# Altium footprint library LIB_MVMC.PcbLib: 49 footprints (part 1 of 4)
Each footprint in its own frame and in the unit in brackets; x right, y up, seen from the top. Pads: shape width x height; smd on the part's side, far side on the other; paste and mask are expansions set on the pad; w line width, h text height; cw(c..) or ccw(c..) is an arc to the next point about the centre after c.
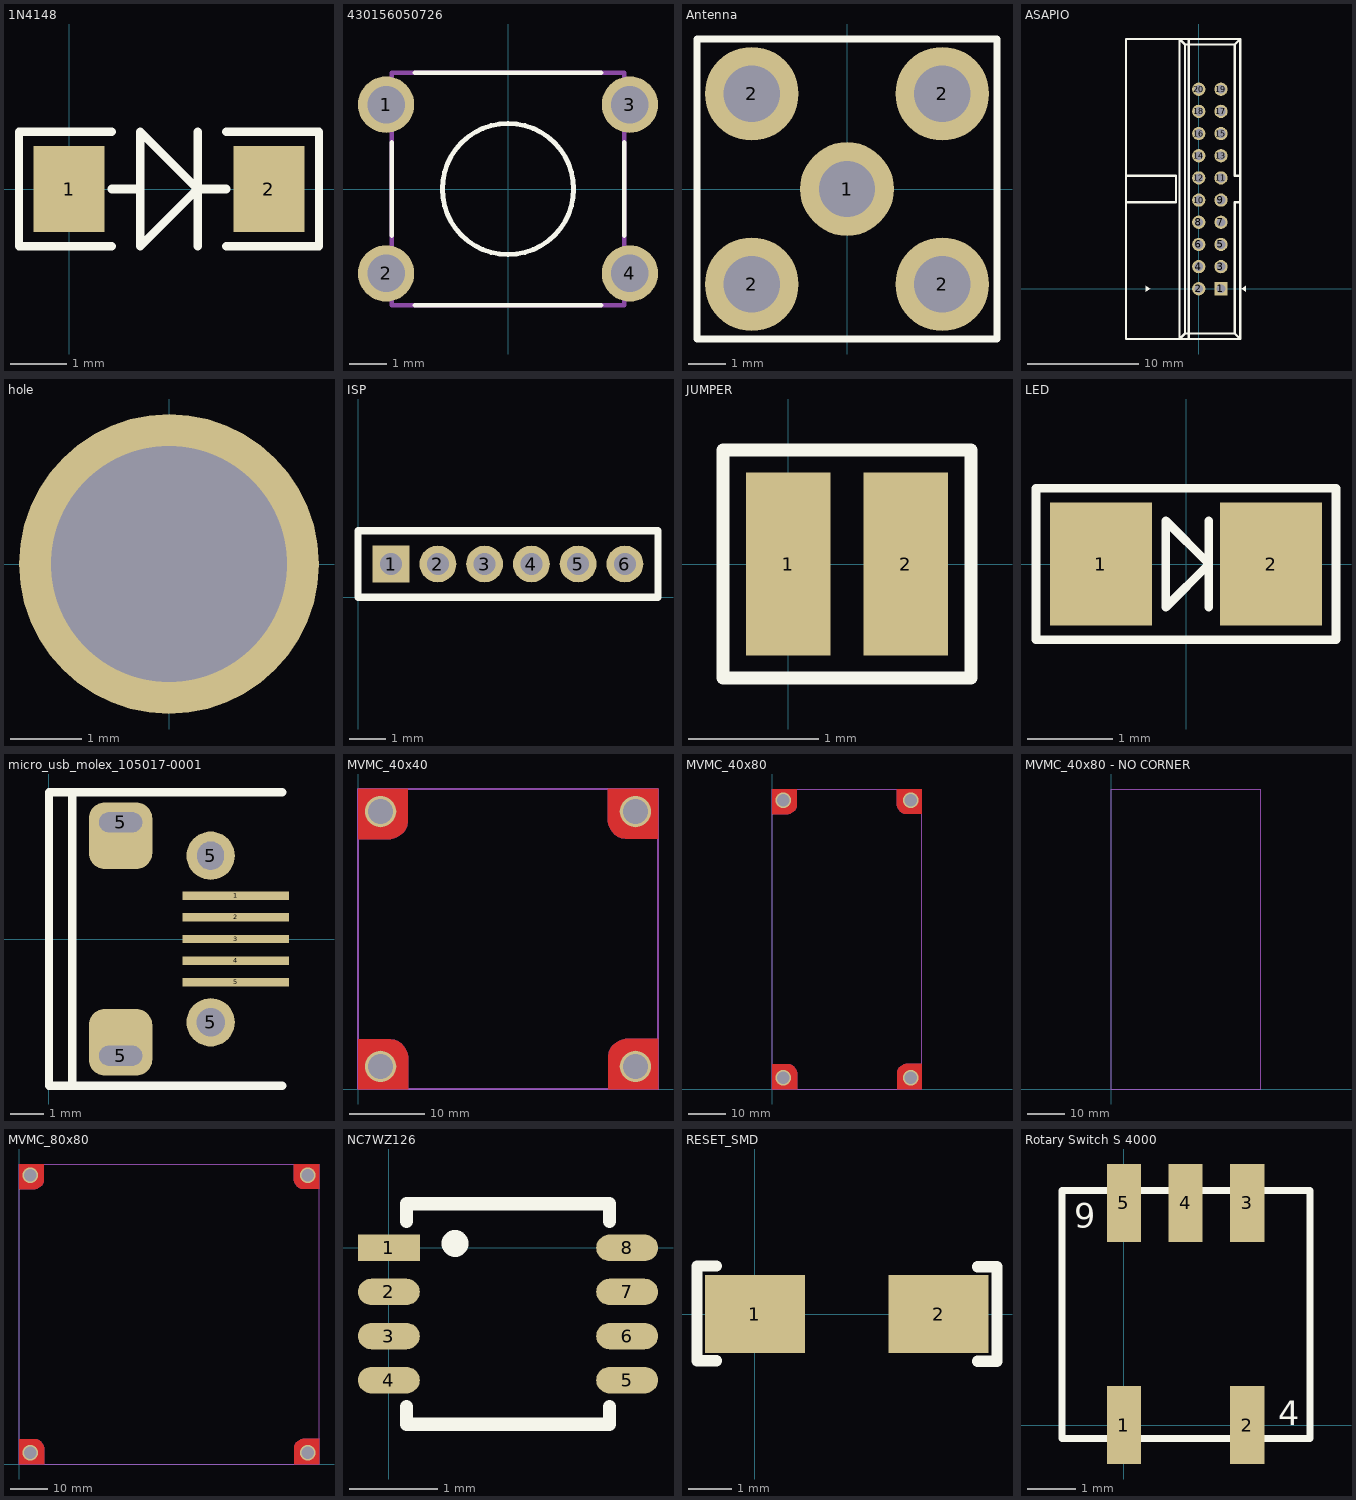
[diagram p0: the footprints below, top view; thin cyan lines are the x and y axes]

## 1N4148 [mil]
pads (2):
  rect 50x60 smd: 1(0,0) 2(140,0)
Top Overlay:
  lines w5.91: 30,-40 -35,-40 -35,40 30,40 ; 110,-40 175,-40 175,40 110,40
  lines w6: 30,0 50,0 ; 90,-40 90,40 ; 110,0 90,0 ; 90,0 50,40 50,-40 90,0
3D body "SOD-80C.STEP": height 63.13, standoff -0.14, extent -1.96,-31.63 143.71,31.64

## 430156050726 [mm] "6*6mm vertical type, THT, height 5.0mm, white actuator, 260gf, Bulk"
height 5
pads (4):
  round 1.5 hole 1: 1(-3.25,2.25) 2(-3.25,-2.25) 3(3.25,2.25) 4(3.25,-2.25)
Top Overlay:
  circle w0.127: c0,0 r1.75
  lines w0.127: -3.1,-1.24 -3.1,1.24 ; -2.48,-3.1 2.48,-3.1 ; -2.48,3.1 2.48,3.1 ; 3.1,-1.24 3.1,1.24
Mechanical 13:
  lines w0.127: -3.1,-3.1 3.1,-3.1 3.1,3.1 -3.1,3.1 -3.1,-3.1
3D body "4301x60507x6.stp": height 5, standoff -3.49, extent -3.947,-3.1 3.947,3.1

## Antenna [mm]
pads (5):
  round 2.5 hole 1.5: 1(0,0) 2(-2.54,-2.54) 2(-2.54,2.54) 2(2.54,-2.54) 2(2.54,2.54)
Top Overlay:
  lines w0.2: -4,-4 4,-4 4,4 -4,4 -4,-4

## ASAPIO [mm]
pads (20):
  rect 1.2x1.2 hole 0.8: 1(2,0)
  round 1.2 hole 0.8: 2(0,0) 3(2,2) 4(0,2) 5(2,4) 6(0,4) 7(2,6) 8(0,6) 9(2,8) 10(0,8) 11(2,10) 12(0,10) 13(2,12) 14(0,12) 15(2,14) 16(0,14) 17(2,16) 18(0,16) 19(2,18) 20(0,18)
Top Overlay:
  region: 4.255,0.254 3.873,0 4.255,-0.254
  region: -4.763,-0.254 -4.381,0 -4.763,0.254
  lines w0.2: -6.561,-4.53 -6.561,22.53 ; -6.561,7.8 -2.061,7.8 -2.061,10.2 -6.561,10.2 ; -6.55,-4.53 -0.9,-4.53 -0.9,22.53 -6.55,22.53 ; -1.735,-4.53 3.735,-4.53 ; -1.735,-4.53 -1.735,22.53 ; -1.735,-4.53 -1.235,-4.03 ; -1.735,22.53 3.735,22.53 ; -1.735,22.53 -1.235,22.03 ; -1.235,-4.03 3.235,-4.03 ; -1.235,-4.03 -1.235,22.03 ; -1.235,22.03 3.235,22.03 ; 3.235,-4.03 3.235,7.8 3.735,7.8 ; 3.235,-4.03 3.735,-4.53 ; 3.235,22.03 3.235,10.2 3.735,10.2 ; 3.235,22.03 3.735,22.53 ; 3.735,-4.53 3.735,7.8 ; 3.735,7.8 3.735,10.2 ; 3.735,10.2 3.735,22.53

## hole [mm]
pads (1):
  round 4.2 hole 3.3: ""(0,0)

## ISP [mm]
pads (6):
  rect 1x1 hole 0.6: 1(0.9,0.9)
  round 1 hole 0.6: 2(2.17,0.9) 3(3.44,0.9) 4(4.71,0.9) 5(5.98,0.9) 6(7.25,0.9)
Top Overlay:
  lines w0.2: 0,0 0,1.8 8.15,1.8 8.15,0 0,0

## JUMPER [mm]
pads (2):
  rect 0.65x1.4 smd: 1(0,0) 2(0.9,0)
Top Overlay:
  lines w0.1: -0.5,-0.875 -0.5,0.875 1.4,0.875 1.4,-0.875 -0.5,-0.875

## LED [mm]
pads (2):
  rect 1.2x1.45 smd: 1(-1,0) 2(1,0)
Top Overlay:
  lines w0.1: 0.27,-0.508 0.27,0.508 ; -1.762,-0.889 -1.762,0.889 1.762,0.889 1.762,-0.889 -1.762,-0.889 ; -0.238,-0.508 -0.238,0.508 0.27,0 -0.238,-0.508
3D body: height 0.5, standoff 0, extent -2.544,-0.217 -2.544,-0.217
3D body "User Library-User Library-led_0805 GRE.step": height 1.1, standoff 0, extent -1.01,-0.625 1.01,0.625

## micro_usb_molex_105017-0001 [mm]
pads (9):
  rect 3.2x0.25 smd: 1(5.6,1.3) 2(5.6,0.65) 3(5.6,0) 4(5.6,-0.65) 5(5.6,-1.3)
  rrect50% 1.9x2 hole 0.6 slot 1.3 at 0 deg copper offset 0,0.4: 5(2.15,-3.5)
  rrect50% 1.9x2 hole 0.6 slot 1.3 at 0 deg copper offset 0,-0.4: 5(2.15,3.5)
  round 1.45 hole 0.85: 5(4.85,-2.5)
  round 1.45 hole 0.85 slot 0.8 at 0 deg: 5(4.85,2.5)
Top Overlay:
  lines w0.254: 0.7,-4.4 0.7,4.4 ; 7,-4.4 0,-4.4 0,0 0,4.4 7,4.4
3D body "1050170001.stp": height 2.78, standoff -0.53, extent -0.45,-4.1 4.95,4.1

## MVMC_40x40 [mm]
pads (4):
  round 4.2 hole 3.3: ""(3,3) ""(3,37) ""(37,3) ""(37,37)
Top Layer:
  pour cut-out: 6.675,0 6.675,4.102 6.675,4.352 6.577,4.843 6.386,5.305 6.108,5.721 5.754,6.075 5.338,6.353 4.876,6.544 4.385,6.642 4.135,6.642 0,6.642 0,0
  pour cut-out: 40,6.675 35.898,6.675 35.648,6.675 35.157,6.577 34.695,6.386 34.279,6.108 33.925,5.754 33.647,5.338 33.456,4.876 33.358,4.385 33.358,4.135 33.358,0 40,0
  pour cut-out: 33.325,40 33.325,35.898 33.325,35.648 33.423,35.157 33.614,34.695 33.892,34.279 34.246,33.925 34.662,33.647 35.124,33.456 35.615,33.358 35.865,33.358 40,33.358 40,40
  pour cut-out: 0,33.325 4.102,33.325 4.352,33.325 4.843,33.423 5.305,33.614 5.721,33.892 6.075,34.246 6.353,34.662 6.544,35.124 6.642,35.615 6.642,35.865 6.642,40 0,40
Bottom Layer:
  pour cut-out: 6.675,0 6.675,4.102 6.675,4.352 6.577,4.843 6.386,5.305 6.108,5.721 5.754,6.075 5.338,6.353 4.876,6.544 4.385,6.642 4.135,6.642 0,6.642 0,0
  pour cut-out: 40,6.675 35.898,6.675 35.648,6.675 35.157,6.577 34.695,6.386 34.279,6.108 33.925,5.754 33.647,5.338 33.456,4.876 33.358,4.385 33.358,4.135 33.358,0 40,0
  pour cut-out: 33.325,40 33.325,35.898 33.325,35.648 33.423,35.157 33.614,34.695 33.892,34.279 34.246,33.925 34.662,33.647 35.124,33.456 35.615,33.358 35.865,33.358 40,33.358 40,40
  pour cut-out: 0,33.325 4.102,33.325 4.352,33.325 4.843,33.423 5.305,33.614 5.721,33.892 6.075,34.246 6.353,34.662 6.544,35.124 6.642,35.615 6.642,35.865 6.642,40 0,40
Mechanical 1:
  lines w0.254: 0,0 40,0 40,40 0,40 0,0

## MVMC_40x80 [mm]
pads (4):
  round 4.2 hole 3.3: ""(3,3) ""(3,77) ""(37,3) ""(37,77)
Top Layer:
  pour cut-out: 33.325,80 33.325,75.898 33.325,75.648 33.423,75.157 33.614,74.695 33.892,74.279 34.246,73.925 34.662,73.647 35.124,73.456 35.615,73.358 35.865,73.358 40,73.358 40,80
  pour cut-out: 0,73.325 4.102,73.325 4.352,73.325 4.843,73.423 5.305,73.614 5.721,73.892 6.075,74.246 6.353,74.662 6.544,75.124 6.642,75.615 6.642,75.865 6.642,80 0,80
  pour cut-out: 6.675,0 6.675,4.102 6.675,4.352 6.577,4.843 6.386,5.305 6.108,5.721 5.754,6.075 5.338,6.353 4.876,6.544 4.385,6.642 4.135,6.642 0,6.642 0,0
  pour cut-out: 40,6.675 35.898,6.675 35.648,6.675 35.157,6.577 34.695,6.386 34.279,6.108 33.925,5.754 33.647,5.338 33.456,4.876 33.358,4.385 33.358,4.135 33.358,0 40,0
Bottom Layer:
  pour cut-out: 33.325,80 33.325,75.898 33.325,75.648 33.423,75.157 33.614,74.695 33.892,74.279 34.246,73.925 34.662,73.647 35.124,73.456 35.615,73.358 35.865,73.358 40,73.358 40,80
  pour cut-out: 0,73.325 4.102,73.325 4.352,73.325 4.843,73.423 5.305,73.614 5.721,73.892 6.075,74.246 6.353,74.662 6.544,75.124 6.642,75.615 6.642,75.865 6.642,80 0,80
  pour cut-out: 6.675,0 6.675,4.102 6.675,4.352 6.577,4.843 6.386,5.305 6.108,5.721 5.754,6.075 5.338,6.353 4.876,6.544 4.385,6.642 4.135,6.642 0,6.642 0,0
  pour cut-out: 40,6.675 35.898,6.675 35.648,6.675 35.157,6.577 34.695,6.386 34.279,6.108 33.925,5.754 33.647,5.338 33.456,4.876 33.358,4.385 33.358,4.135 33.358,0 40,0
Mechanical 1:
  lines w0.254: 0,0 40,0 40,80 0,80 0,0

## MVMC_40x80 - NO CORNER [mm]
Mechanical 1:
  lines w0.254: 0,0 40,0 40,80 0,80 0,0

## MVMC_80x80 [mm]
pads (4):
  round 4.2 hole 3.3: ""(3,3) ""(3,77) ""(77,3) ""(77,77)
Top Layer:
  pour cut-out: 0,73.325 4.102,73.325 4.352,73.325 4.843,73.423 5.305,73.614 5.721,73.892 6.075,74.246 6.353,74.662 6.544,75.124 6.642,75.615 6.642,75.865 6.642,80 0,80
  pour cut-out: 73.325,80 73.325,75.898 73.325,75.648 73.423,75.157 73.614,74.695 73.892,74.279 74.246,73.925 74.662,73.647 75.124,73.456 75.615,73.358 75.865,73.358 80,73.358 80,80
  pour cut-out: 80,6.675 75.898,6.675 75.648,6.675 75.157,6.577 74.695,6.386 74.279,6.108 73.925,5.754 73.647,5.338 73.456,4.876 73.358,4.385 73.358,4.135 73.358,0 80,0
  pour cut-out: 6.675,0 6.675,4.102 6.675,4.352 6.577,4.843 6.386,5.305 6.108,5.721 5.754,6.075 5.338,6.353 4.876,6.544 4.385,6.642 4.135,6.642 0,6.642 0,0
Bottom Layer:
  pour cut-out: 0,73.325 4.102,73.325 4.352,73.325 4.843,73.423 5.305,73.614 5.721,73.892 6.075,74.246 6.353,74.662 6.544,75.124 6.642,75.615 6.642,75.865 6.642,80 0,80
  pour cut-out: 73.325,80 73.325,75.898 73.325,75.648 73.423,75.157 73.614,74.695 73.892,74.279 74.246,73.925 74.662,73.647 75.124,73.456 75.615,73.358 75.865,73.358 80,73.358 80,80
  pour cut-out: 80,6.675 75.898,6.675 75.648,6.675 75.157,6.577 74.695,6.386 74.279,6.108 73.925,5.754 73.647,5.338 73.456,4.876 73.358,4.385 73.358,4.135 73.358,0 80,0
  pour cut-out: 6.675,0 6.675,4.102 6.675,4.352 6.577,4.843 6.386,5.305 6.108,5.721 5.754,6.075 5.338,6.353 4.876,6.544 4.385,6.642 4.135,6.642 0,6.642 0,0
Mechanical 1:
  lines w0.254: 0,0 0,80 80,80 80,0 0,0

## NC7WZ126 [mm]
pads (8):
  rect 0.7x0.3 smd: 1(0,0)
  rrect100% 0.7x0.3 smd: 2(0,-0.5) 3(0,-1) 4(0,-1.5) 5(2.7,-1.5) 6(2.7,-1) 7(2.7,-0.5) 8(2.7,0)
Top Overlay:
  circle w0.254: c0.75,0.05 r0.025
  lines w0.152: 0.2,-1.8 0.2,-2 2.5,-2 2.5,-1.8 ; 0.2,0.3 0.2,0.5 2.5,0.5 2.5,0.3

## RESET_SMD [mil]
pads (2):
  rect 90x70 smd: 1(0,0) 2(165,0)
Top Overlay:
  lines w10: -34.5,-42 -52,-42 -52,43 -34.5,43 ; 200,-42.5 217.5,-42.5 217.5,42.5 200,42.5

## Rotary Switch S 4000 [mm]
pads (5):
  rect 0.7x1.6 smd: 1(0,0) 2(2.54,0) 3(2.54,4.572) 4(1.27,4.572) 5(0,4.572)
Top Overlay:
  lines w0.15: -1.27,-0.274 3.83,-0.274 3.83,4.826 -1.27,4.826 -1.27,-0.274
  text "9" at -1.016,4.064 h0.5
  text "4" at 3.175,0 h0.5
3D body: height 3, standoff 0, extent -1.192,-0.196 3.752,4.748